# Altium footprint library INDM720X665X300L200X340N.PcbLib: 1 footprints
Each footprint in its own frame and in the unit in brackets; x right, y up, seen from the top. Pads: shape width x height; smd on the part's side, far side on the other; paste and mask are expansions set on the pad; w line width, h text height; cw(c..) or ccw(c..) is an arc to the next point about the centre after c.
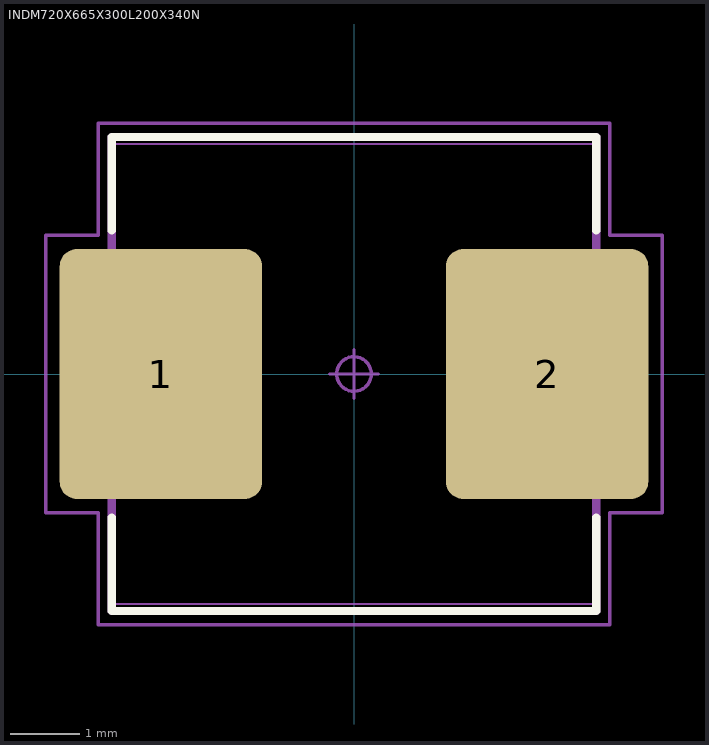
[diagram p0: the footprint, top view; thin cyan lines are the x and y axes]

## INDM720X665X300L200X340N [mm] "Inductor, Molded Body; 7.00 mm L X 6.65 mm W X 3.00 mm H Body"
height 3
pads (2):
  rrect17% 2.926x3.615 smd: 1(-2.792,0) 2(2.792,0)
Top Overlay:
  lines w0.12: -3.5,-2.075 -3.5,-3.425 3.5,-3.425 3.5,-2.075 ; -3.5,2.075 -3.5,3.425 3.5,3.425 3.5,2.075
Mechanical 3:
  lines w0.12: -3.5,-3.425 -3.5,3.425 3.5,3.425 3.5,-3.425 -3.5,-3.425
Mechanical 5:
  lines w0.025: -3.6,-1.7 -1.6,-1.7 -1.6,1.7 -3.6,1.7 -3.6,-1.7 ; -3.5,-3.325 -3.5,3.325 3.5,3.325 3.5,-3.325 -3.5,-3.325 ; 1.6,-1.7 1.6,1.7 3.6,1.7 3.6,-1.7 1.6,-1.7
Mechanical 7:
  circle w0.05: c0,0 r0.25
  lines w0.05: -0.35,0 0.35,0 ; 0,-0.35 0,0.35 ; -4.455,-2.008 -4.455,2.008 -3.7,2.008 -3.7,3.625 3.7,3.625 3.7,2.008 4.455,2.008 4.455,-2.008 3.7,-2.008 3.7,-3.625 -3.7,-3.625 -3.7,-2.008 -4.455,-2.008
Mechanical 9:
  text "'.Designator'" at -5.817,-0.271 h1.02
3D body "INDM720X665X300L200X340.STEP": height 3, standoff 0, extent -3.6,-3.325 3.6,3.325
3D body: height 3, standoff 0, extent -4.455,-3.625 4.455,3.625